# EAGLE library part ENC28J60 (library marius)
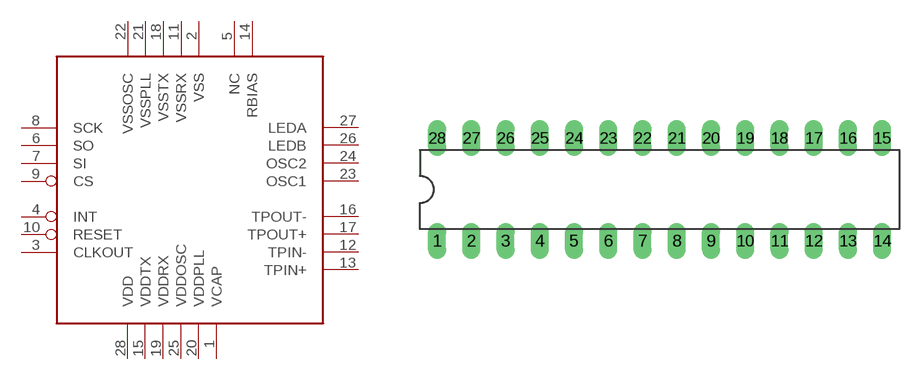
[diagram p2: symbol with the pads of DIP28; footprint DIP28]

Designator prefix -

## ENC28J60  [DIP28]
1  VCAP  sup
2  VSS  sup
3  CLKOUT  oc
4  INT  out
5  NC  nc
6  SO  out
7  SI  in
8  SCK
9  CS  in
10  RESET  in
11  VSSRX  sup
12  TPIN-  in
13  TPIN+  in
14  RBIAS  in
15  VDDTX  sup
16  TPOUT-  out
17  TPOUT+  out
18  VSSTX  sup
19  VDDRX  sup
20  VDDPLL  sup
21  VSSPLL  sup
22  VSSOSC  sup
23  OSC1  in
24  OSC2  out
25  VDDOSC  sup
26  LEDB  out
27  LEDA  out
28  VDD  sup

## Footprint DIP28 (pad centres in mm)
drill 0.813 long: 1 -16.51,-3.81; 2 -13.97,-3.81; 3 -11.43,-3.81; 4 -8.89,-3.81; 5 -6.35,-3.81; 6 -3.81,-3.81; 7 -1.27,-3.81; 8 1.27,-3.81; 9 3.81,-3.81; 10 6.35,-3.81; 11 8.89,-3.81; 12 11.43,-3.81; 13 13.97,-3.81; 14 16.51,-3.81; 15 16.51,3.81; 16 13.97,3.81; 17 11.43,3.81; 18 8.89,3.81; 19 6.35,3.81; 20 3.81,3.81; 21 1.27,3.81; 22 -1.27,3.81; 23 -3.81,3.81; 24 -6.35,3.81; 25 -8.89,3.81; 26 -11.43,3.81; 27 -13.97,3.81; 28 -16.51,3.81